# Altium footprint library PCB_Reflow_Plate_PcbLib.PcbLib: 21 footprints (part 2 of 2)
Each footprint in its own frame and in the unit in brackets; x right, y up, seen from the top. Pads: shape width x height; smd on the part's side, far side on the other; paste and mask are expansions set on the pad; w line width, h text height; cw(c..) or ccw(c..) is an arc to the next point about the centre after c.
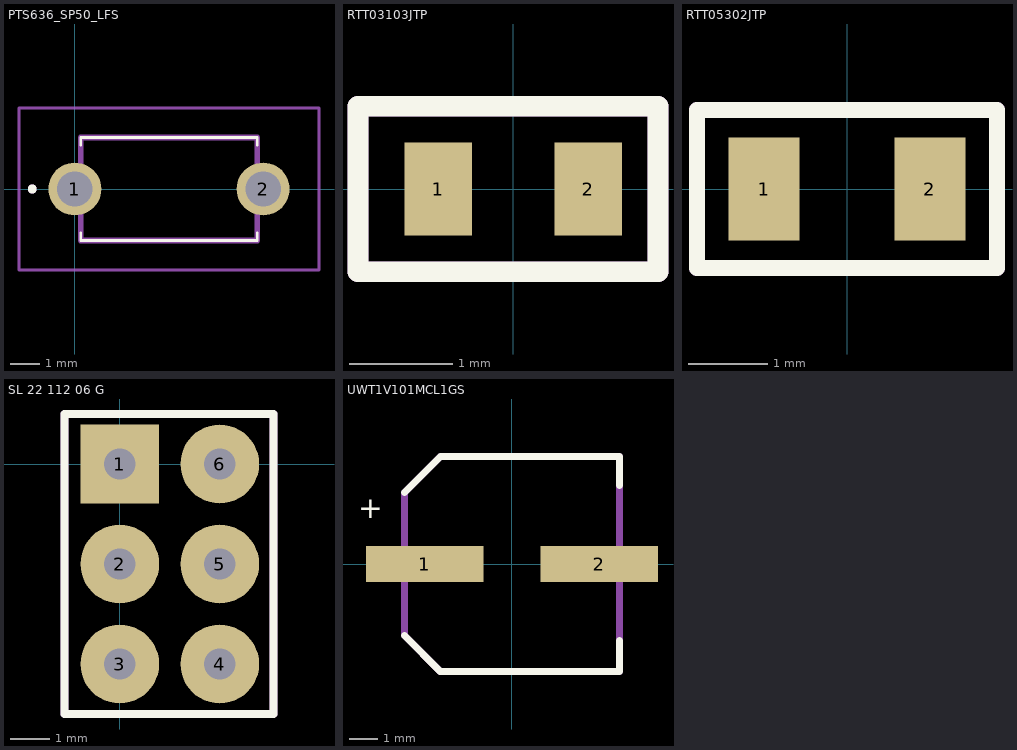
[diagram p1: the footprints below, top view; thin cyan lines are the x and y axes]

## PTS636_SP50_LFS [mm] "Switch"
pads (2):
  round 1.8 hole 1.2: 1(0,0) 2(6.4,0)
Top Overlay:
  lines w0.1: 0.2,-1.75 0.2,-1.5 0.2,-1.75 ; 0.2,-1.75 6.2,-1.75 ; 0.2,-1.75 6.2,-1.75 ; 0.2,1.75 6.2,1.75 ; 0.2,1.75 6.2,1.75 ; 0.2,1.75 0.2,1.5 0.2,1.75 ; 6.2,-1.75 6.2,-1.5 6.2,-1.75 ; 6.2,1.75 6.2,1.5 6.2,1.75
  lines w0.2: -1.5,0 ccw(c-1.45,0) -1.4,0 ; -1.5,0 cw(c-1.45,0) -1.4,0 ; -1.5,0 ccw(c-1.45,0) -1.4,0
Top Assembly:
  lines w0.1: 0.2,-1.75 0.2,-1.5 0.2,-1.75 ; 0.2,-1.75 6.2,-1.75 ; 0.2,-1.75 6.2,-1.75 ; 0.2,1.75 6.2,1.75 ; 0.2,1.75 6.2,1.75 ; 0.2,1.75 0.2,1.5 0.2,1.75 ; 6.2,-1.75 6.2,-1.5 6.2,-1.75 ; 6.2,1.75 6.2,1.5 6.2,1.75
  lines w0.2: -1.5,0 ccw(c-1.45,0) -1.4,0 ; -1.5,0 cw(c-1.45,0) -1.4,0 ; -1.5,0 ccw(c-1.45,0) -1.4,0
  text "'.Designator'" at -4.194,-0.529 h1.27
Mechanical 13:
  lines w0.2: 0.2,-1.75 6.2,-1.75 6.2,1.75 0.2,1.75 0.2,-1.75
Mechanical 15:
  lines w0.1: -1.9,-2.75 8.3,-2.75 8.3,2.75 -1.9,2.75 -1.9,-2.75
3D body "PTS636_SP50_LFS.stp": height 4.6, standoff -5, extent -0.496,-1.75 6.9,1.75

## RTT03103JTP [mm]
pads (2):
  rect 0.65x0.9 smd: 1(-0.725,0) 2(0.725,0)
Top Overlay:
  lines w0.2: -1.5,-0.8 -1.5,0.8 1.4,0.8 1.4,-0.8 -1.5,-0.8
Top Assembly:
  lines w0.2: -1.5,-0.8 -1.5,0.8 1.4,0.8 1.4,-0.8 -1.5,-0.8
  text "'.Designator'" at -4.317,-0.317 h0.76
3D body "res0603r.STEP": height 0.46, standoff 0.01, extent -0.8,-0.4 0.8,0.4

## RTT05302JTP [mm]
pads (2):
  rect 0.9x1.3 smd: 1(-1.05,0) 2(1.05,0)
Top Overlay:
  lines w0.2: -1.9,-1 1.9,-1 1.9,1 -1.9,1 -1.9,-1
Top Assembly:
  lines w0.2: -1.9,-1 1.9,-1 1.9,1 -1.9,1 -1.9,-1
  text "'.Designator'" at -7.194,-0.529 h1.27
3D body "res0805.STEP": height 0.51, standoff 0.01, extent -1,-0.625 1,0.625

## SL 22 112 06 G [mm]
pads (6):
  rect 2x2 hole 0.8: 1(0,0)
  round 2 hole 0.8: 2(0,-2.54) 3(0,-5.08) 4(2.54,-5.08) 5(2.54,-2.54) 6(2.54,0)
Top Overlay:
  lines w0.2: 0.635,1.27 3.9,1.27 3.9,-6.35 -1.4,-6.35 -1.4,1.27 1.905,1.27
Top Assembly:
  lines w0.2: 0.635,1.27 3.9,1.27 3.9,-6.35 -1.4,-6.35 -1.4,1.27 1.905,1.27
  text "'.Designator'" at -5.994,-3.229 h1.27
3D body "HeaderPin Male 3x2x2.54.STEP": height 8.65, standoff -3.29, extent -1.27,-6.35 3.81,1.27

## UWT1V101MCL1GS [mil]
pads (2):
  rect 164x50 smd: 1(-122,0) 2(122,0)
Top Overlay:
  lines w10: -150.05,-100 -100.05,-150 ; -150.05,100 -149.95,100 -99.95,150 150.05,150 150.05,109.8 ; -99.95,-150 150.05,-150 150.05,-106.74
  text "+" at -215.04,64 h30
Top Assembly:
  lines w10: -100.05,-150 -150.05,-100 -150.05,0 -150.05,100 -149.95,100 -99.95,150 150.05,150 150.05,-150 -99.95,-150
  text "'.Designator'" at -283.24,-20.83 h50
  text "+" at -215.04,64 h30
3D body "UWT1V101MCL1GS.stp": height 314.96, standoff 0, extent -145.67,-133.86 145.67,133.86